# Altium schematic symbol library relay_spdt.Schlib: 1 symbol
Pins are listed as number, name and electrical type; pins without a type are passive.

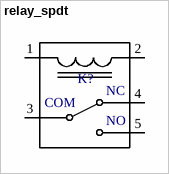
[diagram p0: symbol relay_spdt]

## relay_spdt
designator K?  (value not drawn)
SPDT Relay
pins: 1, 2, 3 COM, 4 NC, 5 NO